# Altium footprint library PRESSURE.PCBLIB: 2 footprints
Each footprint in its own frame and in the unit in brackets; x right, y up, seen from the top. Pads: shape width x height; smd on the part's side, far side on the other; paste and mask are expansions set on the pad; w line width, h text height; cw(c..) or ccw(c..) is an arc to the next point about the centre after c.
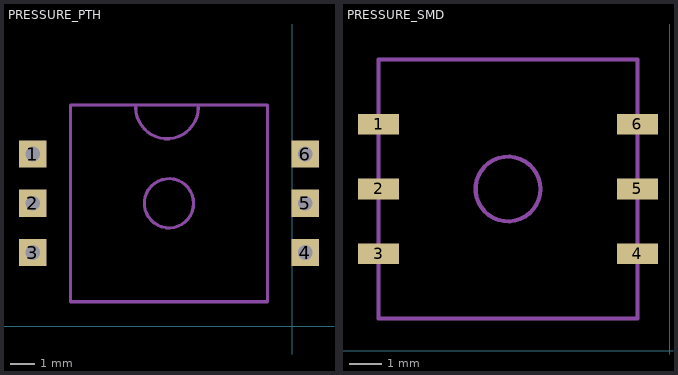
[diagram p0: the footprints below, top view; thin cyan lines are the x and y axes]

## PRESSURE_PTH [mm]
pads (6):
  rect 1.108x1.108 / inner round 1.024 / far side rect 1.108x1.108 hole 0.6: 1(-10.54,7) 2(-10.54,5) 3(-10.54,3) 4(0.54,3) 5(0.54,5) 6(0.54,7)
bPlace:
  circle w0.127: c-5,5 r1
  lines w0.127: -6.35,8.89 ccw(c-5.08,8.89) -3.81,8.89 ; -9,1 -9,9 -1,9 -1,1 -9,1

## PRESSURE_SMD [mm]
pads (6):
  rect 1.27x0.635 smd: 1(-9,7) 2(-9,5) 3(-9,3) 4(-1,3) 5(-1,5) 6(-1,7)
tPlace:
  circle w0.127: c-5,5 r1
  lines w0.127: -9,1 -9,9 -1,9 -1,1 -9,1